# Altium integrated library Diodes - TVS.IntLib: 5379 symbols (part 114 of 122)
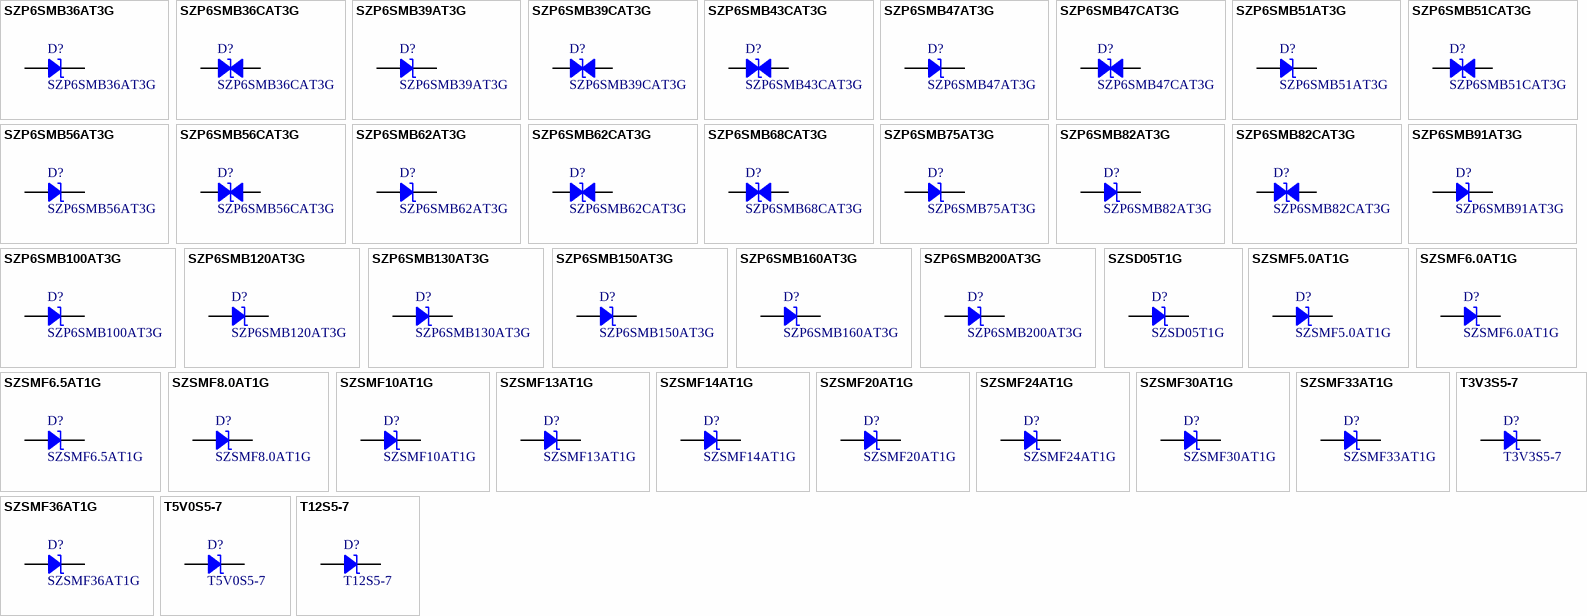
[diagram p247: symbols SZP6SMB36AT3G to T12S5-7]

## SZP6SMB160AT3G
designator D?
TVS DIODE 136V 219V SMB; Manufacturer: Littelfuse Inc.; Capacitance @ Frequency: 140pF @ 1MHz; Current - Peak Pulse (10/1000µs): 2.7A; Power Line Protection: No; Power - Peak Pulse: 600W; Type: Zener; Unidirectional Channels: 1; Voltage - Breakdown (Min): 152V; Part Number: SZP6SMB160AT3G; Applications: Automotive; ComponentLink1Description: Datasheet; ComponentLink1URL: https://www.littelfuse.com/~/media/electronics/datasheets/tvs_diodes/littelfuse_tvs_diode_szp6smb_datasheet.pdf.pdf; ComponentLink2Description: DigiKey Link; ComponentLink2URL: http://digikey.com/product-detail/en/littelfuse-inc/SZP6SMB160AT3G/F11613CT-ND/9326933; LastUpdated: 9/2/2020 1:19:51 AM; Lifecycle Status: Active; Minimum Order: 1; Mounting Type: Surface Mount; Operating Temperature: -65°C ~ 150°C (TJ); Package / Case: DO-214AA, SMB; Packaging: TapeAndReel; PartId: 11346; Part Status: Active; Price: 0.30; Series: Automotive, AEC-Q101; Supplier 1: DigiKey; Supplier Part Number 1: F11613CT-ND; Supplier Device Package: SMB; Voltage - Clamping (Max) @ Ipp: 219V; Voltage - Reverse Standoff (Typ): 136V
footprint DO214AA SMB
pins: 1, 2

## SZP6SMB200AT3G
designator D?
TVS DIODE 171VWM 274VC SMB; Manufacturer: Littelfuse Inc.; Capacitance @ Frequency: 115pF @ 1MHz; Current - Peak Pulse (10/1000µs): 2.2A; Power Line Protection: No; Power - Peak Pulse: 600W; Type: Zener; Unidirectional Channels: 1; Voltage - Breakdown (Min): 190V; Voltage - Clamping (Max) @ Ipp: 274V; Voltage - Reverse Standoff (Typ): 171V; Part Number: SZP6SMB200AT3G; Applications: Automotive; ComponentLink1Description: Datasheet; ComponentLink1URL: https://www.littelfuse.com/~/media/electronics/datasheets/tvs_diodes/littelfuse_tvs_diode_szp6smb_datasheet.pdf.pdf; ComponentLink2Description: DigiKey Link; ComponentLink2URL: http://digikey.com/product-detail/en/littelfuse-inc/SZP6SMB200AT3G/SZP6SMB200AT3GCT-ND/8548344; LastUpdated: 9/2/2020 1:19:48 AM; Lifecycle Status: Active; Minimum Order: 1; Mounting Type: Surface Mount; Operating Temperature: -65°C ~ 150°C (TJ); Package / Case: DO-214AA, SMB; Packaging: TapeAndReel; PartId: 10993; Part Status: Active; Price: 0.37; Series: Automotive, AEC-Q101; Supplier 1: DigiKey; Supplier Part Number 1: SZP6SMB200AT3GCT-ND; Supplier Device Package: SMB
footprint DO214AA SMB
pins: 1, 2

## SZSD05T1G
designator D?
TVS DIODE 5VWM 9.8VC SOD323-2; Manufacturer: ON Semiconductor; Capacitance @ Frequency: 350pF @ 1MHz; Current - Peak Pulse (10/1000µs): 24A (8/20µs); Power Line Protection: No; Power - Peak Pulse: 350W; Type: Zener; Unidirectional Channels: 1; Voltage - Breakdown (Min): 6.2V; Voltage - Clamping (Max) @ Ipp: 9.8V; Voltage - Reverse Standoff (Typ): 5V; Part Number: SZSD05T1G; Applications: Automotive; ComponentLink1Description: Datasheet; ComponentLink1URL: https://www.onsemi.com/pub/Collateral/SD05T1-D.PDF; ComponentLink2Description: DigiKey Link; ComponentLink2URL: http://digikey.com/product-detail/en/on-semiconductor/SZSD05T1G/SZSD05T1GOSCT-ND/8539075; LastUpdated: 9/2/2020 1:28:26 AM; Lifecycle Status: Active; Minimum Order: 1; Mounting Type: Surface Mount; Operating Temperature: -55°C ~ 150°C (TJ); Package / Case: SC-76, SOD-323; Packaging: TapeAndReel; PartId: 9846; Part Status: Active; Price: 0.10; Series: Automotive, AEC-Q101; Supplier 1: DigiKey; Supplier Part Number 1: SZSD05T1GOSCT-ND; Supplier Device Package: SOD-323
footprint SOD323
pins: 1, 2

## SZSMF5.0AT1G
designator D?
TVS DIODE 5V 9.2V SOD123FL; Manufacturer: Littelfuse Inc.; Current - Peak Pulse (10/1000µs): 21.7A; Power Line Protection: No; Power - Peak Pulse: 200W; Type: Zener; Unidirectional Channels: 1; Voltage - Breakdown (Min): 6.4V; Part Number: SZSMF5.0AT1G; Applications: Automotive; ComponentLink1Description: Datasheet; ComponentLink1URL: https://www.littelfuse.com/~/media/electronics/datasheets/tvs_diodes/littelfuse_tvs_diode_szsmfxxa_datasheet.pdf.pdf; ComponentLink2Description: DigiKey Link; ComponentLink2URL: http://digikey.com/product-detail/en/littelfuse-inc/SZSMF5.0AT1G/F11655CT-ND/9326995; LastUpdated: 9/2/2020 1:28:37 AM; Lifecycle Status: Active; Minimum Order: 1; Mounting Type: Surface Mount; Operating Temperature: -55°C ~ 150°C (TJ); Package / Case: SOD-123F; Packaging: TapeAndReel; PartId: 10202; Part Status: Active; Price: 0.17; Series: Automotive, AEC-Q101; Supplier 1: DigiKey; Supplier Part Number 1: F11655CT-ND; Supplier Device Package: SOD-123FL; Voltage - Clamping (Max) @ Ipp: 9.2V; Voltage - Reverse Standoff (Typ): 5V
footprint SOD123F
pins: 1, 2

## SZSMF6.0AT1G
designator D?
TVS DIODE 6V 10.3V SOD123FL; Manufacturer: Littelfuse Inc.; Current - Peak Pulse (10/1000µs): 19.4A; Power Line Protection: No; Power - Peak Pulse: 200W; Type: Zener; Unidirectional Channels: 1; Voltage - Breakdown (Min): 6.67V; Part Number: SZSMF6.0AT1G; Applications: Automotive; ComponentLink1Description: Datasheet; ComponentLink1URL: https://www.littelfuse.com/~/media/electronics/datasheets/tvs_diodes/littelfuse_tvs_diode_szsmfxxa_datasheet.pdf.pdf; ComponentLink2Description: DigiKey Link; ComponentLink2URL: http://digikey.com/product-detail/en/littelfuse-inc/SZSMF6.0AT1G/F11656CT-ND/9326996; LastUpdated: 9/2/2020 1:28:36 AM; Lifecycle Status: Active; Minimum Order: 1; Mounting Type: Surface Mount; Operating Temperature: -55°C ~ 150°C (TJ); Package / Case: SOD-123F; Packaging: TapeAndReel; PartId: 10100; Part Status: Active; Price: 0.18; Series: Automotive, AEC-Q101; Supplier 1: DigiKey; Supplier Part Number 1: F11656CT-ND; Supplier Device Package: SOD-123FL; Voltage - Clamping (Max) @ Ipp: 10.3V; Voltage - Reverse Standoff (Typ): 6V
footprint SOD123F
pins: 1, 2

## SZSMF6.5AT1G
designator D?
TVS DIODE 6.5V 11.2V SOD123FL; Manufacturer: Littelfuse Inc.; Current - Peak Pulse (10/1000µs): 17.9A; Power Line Protection: No; Power - Peak Pulse: 200W; Type: Zener; Unidirectional Channels: 1; Voltage - Breakdown (Min): 7.22V; Part Number: SZSMF6.5AT1G; Applications: Automotive; ComponentLink1Description: Datasheet; ComponentLink1URL: https://www.littelfuse.com/~/media/electronics/datasheets/tvs_diodes/littelfuse_tvs_diode_szsmfxxa_datasheet.pdf.pdf; ComponentLink2Description: DigiKey Link; ComponentLink2URL: http://digikey.com/product-detail/en/littelfuse-inc/SZSMF6.5AT1G/F11657CT-ND/9326997; LastUpdated: 9/2/2020 1:28:36 AM; Lifecycle Status: Active; Minimum Order: 1; Mounting Type: Surface Mount; Operating Temperature: -55°C ~ 150°C (TJ); Package / Case: SOD-123F; Packaging: TapeAndReel; PartId: 10098; Part Status: Active; Price: 0.17; Series: Automotive, AEC-Q101; Supplier 1: DigiKey; Supplier Part Number 1: F11657CT-ND; Supplier Device Package: SOD-123FL; Voltage - Clamping (Max) @ Ipp: 11.2V; Voltage - Reverse Standoff (Typ): 6.5V
footprint SOD123F
pins: 1, 2

## SZSMF8.0AT1G
designator D?
TVS DIODE 8V 13.6V SOD123FL; Manufacturer: Littelfuse Inc.; Current - Peak Pulse (10/1000µs): 14.7A; Power Line Protection: No; Power - Peak Pulse: 200W; Type: Zener; Unidirectional Channels: 1; Voltage - Breakdown (Min): 8.89V; Part Number: SZSMF8.0AT1G; Applications: Automotive; ComponentLink1Description: Datasheet; ComponentLink1URL: https://www.littelfuse.com/~/media/electronics/datasheets/tvs_diodes/littelfuse_tvs_diode_szsmfxxa_datasheet.pdf.pdf; ComponentLink2Description: DigiKey Link; ComponentLink2URL: http://digikey.com/product-detail/en/littelfuse-inc/SZSMF8.0AT1G/F11658CT-ND/9326998; LastUpdated: 9/2/2020 1:28:36 AM; Lifecycle Status: Active; Minimum Order: 1; Mounting Type: Surface Mount; Operating Temperature: -55°C ~ 150°C (TJ); Package / Case: SOD-123F; Packaging: TapeAndReel; PartId: 10084; Part Status: Active; Price: 0.17; Series: Automotive, AEC-Q101; Supplier 1: DigiKey; Supplier Part Number 1: F11658CT-ND; Supplier Device Package: SOD-123FL; Voltage - Clamping (Max) @ Ipp: 13.6V; Voltage - Reverse Standoff (Typ): 8V
footprint SOD123F
pins: 1, 2

## SZSMF10AT1G
designator D?
TVS DIODE 10V 17V SOD123FL; Manufacturer: Littelfuse Inc.; Current - Peak Pulse (10/1000µs): 11.8A; Power Line Protection: No; Power - Peak Pulse: 200W; Type: Zener; Unidirectional Channels: 1; Voltage - Breakdown (Min): 11.1V; Part Number: SZSMF10AT1G; Applications: Automotive; ComponentLink1Description: Datasheet; ComponentLink1URL: https://www.littelfuse.com/~/media/electronics/datasheets/tvs_diodes/littelfuse_tvs_diode_szsmfxxa_datasheet.pdf.pdf; ComponentLink2Description: DigiKey Link; ComponentLink2URL: http://digikey.com/product-detail/en/littelfuse-inc/SZSMF10AT1G/F11647CT-ND/9326987; LastUpdated: 9/2/2020 1:28:37 AM; Lifecycle Status: Active; Minimum Order: 1; Mounting Type: Surface Mount; Operating Temperature: -55°C ~ 150°C (TJ); Package / Case: SOD-123F; Packaging: TapeAndReel; PartId: 10170; Part Status: Active; Price: 0.17; Series: Automotive, AEC-Q101; Supplier 1: DigiKey; Supplier Part Number 1: F11647CT-ND; Supplier Device Package: SOD-123FL; Voltage - Clamping (Max) @ Ipp: 17V; Voltage - Reverse Standoff (Typ): 10V
footprint SOD123F
pins: 1, 2

## SZSMF13AT1G
designator D?
TVS DIODE 13V 21.5V SOD123FL; Manufacturer: Littelfuse Inc.; Current - Peak Pulse (10/1000µs): 9.3A; Power Line Protection: No; Power - Peak Pulse: 200W; Type: Zener; Unidirectional Channels: 1; Voltage - Breakdown (Min): 14.4V; Part Number: SZSMF13AT1G; Applications: Automotive; ComponentLink1Description: Datasheet; ComponentLink1URL: https://www.littelfuse.com/~/media/electronics/datasheets/tvs_diodes/littelfuse_tvs_diode_szsmfxxa_datasheet.pdf.pdf; ComponentLink2Description: DigiKey Link; ComponentLink2URL: http://digikey.com/product-detail/en/littelfuse-inc/SZSMF13AT1G/F11648CT-ND/9326988; LastUpdated: 9/2/2020 1:28:36 AM; Lifecycle Status: Active; Minimum Order: 1; Mounting Type: Surface Mount; Operating Temperature: -55°C ~ 150°C (TJ); Package / Case: SOD-123F; Packaging: TapeAndReel; PartId: 10083; Part Status: Active; Price: 0.17; Series: Automotive, AEC-Q101; Supplier 1: DigiKey; Supplier Part Number 1: F11648CT-ND; Supplier Device Package: SOD-123FL; Voltage - Clamping (Max) @ Ipp: 21.5V; Voltage - Reverse Standoff (Typ): 13V
footprint SOD123F
pins: 1, 2

## SZSMF14AT1G
designator D?
TVS DIODE 14V 23.2V SOD123FL; Manufacturer: Littelfuse Inc.; Current - Peak Pulse (10/1000µs): 8.6A (8/20µs); Power Line Protection: No; Power - Peak Pulse: 1000W (1kW); Type: Zener; Unidirectional Channels: 1; Voltage - Breakdown (Min): 15.6V; Part Number: SZSMF14AT1G; Applications: Automotive; ComponentLink1Description: Datasheet; ComponentLink1URL: https://www.littelfuse.com/~/media/electronics/datasheets/tvs_diodes/littelfuse_tvs_diode_szsmfxxa_datasheet.pdf.pdf; ComponentLink2Description: DigiKey Link; ComponentLink2URL: http://digikey.com/product-detail/en/littelfuse-inc/SZSMF14AT1G/F11649CT-ND/9326989; LastUpdated: 9/2/2020 1:28:36 AM; Lifecycle Status: Active; Minimum Order: 1; Mounting Type: Surface Mount; Operating Temperature: -55°C ~ 150°C (TJ); Package / Case: SOD-123F; Packaging: TapeAndReel; PartId: 10101; Part Status: Active; Price: 0.18; Series: Automotive, AEC-Q101; Supplier 1: DigiKey; Supplier Part Number 1: F11649CT-ND; Supplier Device Package: SOD-123FL; Voltage - Clamping (Max) @ Ipp: 23.2V; Voltage - Reverse Standoff (Typ): 14V
footprint SOD123F
pins: 1, 2

## SZSMF20AT1G
designator D?
TVS DIODE 20V 32.4V SOD123FL; Manufacturer: Littelfuse Inc.; Current - Peak Pulse (10/1000µs): 6.2A (8/20µs); Power Line Protection: No; Power - Peak Pulse: 1000W (1kW); Type: Zener; Unidirectional Channels: 1; Voltage - Breakdown (Min): 22.2V; Part Number: SZSMF20AT1G; Applications: Automotive; ComponentLink1Description: Datasheet; ComponentLink1URL: https://www.littelfuse.com/~/media/electronics/datasheets/tvs_diodes/littelfuse_tvs_diode_szsmfxxa_datasheet.pdf.pdf; ComponentLink2Description: DigiKey Link; ComponentLink2URL: http://digikey.com/product-detail/en/littelfuse-inc/SZSMF20AT1G/F11650CT-ND/9326990; LastUpdated: 9/2/2020 1:28:36 AM; Lifecycle Status: Active; Minimum Order: 1; Mounting Type: Surface Mount; Operating Temperature: -55°C ~ 150°C (TJ); Package / Case: SOD-123F; Packaging: TapeAndReel; PartId: 10102; Part Status: Active; Price: 0.18; Series: Automotive, AEC-Q101; Supplier 1: DigiKey; Supplier Part Number 1: F11650CT-ND; Supplier Device Package: SOD-123FL; Voltage - Clamping (Max) @ Ipp: 32.4V; Voltage - Reverse Standoff (Typ): 20V
footprint SOD123F
pins: 1, 2

## SZSMF24AT1G
designator D?
TVS DIODE 24V 38.9V SOD123FL; Manufacturer: Littelfuse Inc.; Current - Peak Pulse (10/1000µs): 5.1A (8/20µs); Power Line Protection: No; Power - Peak Pulse: 1000W (1kW); Type: Zener; Unidirectional Channels: 1; Voltage - Breakdown (Min): 26.7V; Part Number: SZSMF24AT1G; Applications: Automotive; ComponentLink1Description: Datasheet; ComponentLink1URL: https://www.littelfuse.com/~/media/electronics/datasheets/tvs_diodes/littelfuse_tvs_diode_szsmfxxa_datasheet.pdf.pdf; ComponentLink2Description: DigiKey Link; ComponentLink2URL: http://digikey.com/product-detail/en/littelfuse-inc/SZSMF24AT1G/F11651CT-ND/9326991; LastUpdated: 9/2/2020 1:28:36 AM; Lifecycle Status: Active; Minimum Order: 1; Mounting Type: Surface Mount; Operating Temperature: -55°C ~ 150°C (TJ); Package / Case: SOD-123F; Packaging: TapeAndReel; PartId: 10069; Part Status: Active; Price: 0.18; Series: Automotive, AEC-Q101; Supplier 1: DigiKey; Supplier Part Number 1: F11651CT-ND; Supplier Device Package: SOD-123FL; Voltage - Clamping (Max) @ Ipp: 38.9V; Voltage - Reverse Standoff (Typ): 24V
footprint SOD123F
pins: 1, 2

## SZSMF30AT1G
designator D?
TVS DIODE 30V 48.4V SOD123FL; Manufacturer: Littelfuse Inc.; Current - Peak Pulse (10/1000µs): 4.1A; Power Line Protection: No; Power - Peak Pulse: 200W; Type: Zener; Unidirectional Channels: 1; Voltage - Breakdown (Min): 33.3V; Part Number: SZSMF30AT1G; Applications: Automotive; ComponentLink1Description: Datasheet; ComponentLink1URL: https://www.littelfuse.com/~/media/electronics/datasheets/tvs_diodes/littelfuse_tvs_diode_szsmfxxa_datasheet.pdf.pdf; ComponentLink2Description: DigiKey Link; ComponentLink2URL: http://digikey.com/product-detail/en/littelfuse-inc/SZSMF30AT1G/F11652CT-ND/9326992; LastUpdated: 9/2/2020 1:28:36 AM; Lifecycle Status: Active; Minimum Order: 1; Mounting Type: Surface Mount; Operating Temperature: -55°C ~ 150°C (TJ); Package / Case: SOD-123F; Packaging: TapeAndReel; PartId: 10136; Part Status: Active; Price: 0.18; Series: Automotive, AEC-Q101; Supplier 1: DigiKey; Supplier Part Number 1: F11652CT-ND; Supplier Device Package: SOD-123FL; Voltage - Clamping (Max) @ Ipp: 48.4V; Voltage - Reverse Standoff (Typ): 30V
footprint SOD123F
pins: 1, 2

## SZSMF33AT1G
designator D?
TVS DIODE 33V 53.3V SOD123FL; Manufacturer: Littelfuse Inc.; Current - Peak Pulse (10/1000µs): 3.8A (8/20µs); Power Line Protection: No; Power - Peak Pulse: 1000W (1kW); Type: Zener; Unidirectional Channels: 1; Voltage - Breakdown (Min): 36.7V; Part Number: SZSMF33AT1G; Applications: Automotive; ComponentLink1Description: Datasheet; ComponentLink1URL: https://www.littelfuse.com/~/media/electronics/datasheets/tvs_diodes/littelfuse_tvs_diode_szsmfxxa_datasheet.pdf.pdf; ComponentLink2Description: DigiKey Link; ComponentLink2URL: http://digikey.com/product-detail/en/littelfuse-inc/SZSMF33AT1G/F11653CT-ND/9326993; LastUpdated: 9/2/2020 1:28:36 AM; Lifecycle Status: Active; Minimum Order: 1; Mounting Type: Surface Mount; Operating Temperature: -55°C ~ 150°C (TJ); Package / Case: SOD-123F; Packaging: TapeAndReel; PartId: 10097; Part Status: Active; Price: 0.18; Series: Automotive, AEC-Q101; Supplier 1: DigiKey; Supplier Part Number 1: F11653CT-ND; Supplier Device Package: SOD-123FL; Voltage - Clamping (Max) @ Ipp: 53.3V; Voltage - Reverse Standoff (Typ): 33V
footprint SOD123F
pins: 1, 2

## SZSMF36AT1G
designator D?
TVS DIODE 36V 58.1V SOD123FL; Manufacturer: Littelfuse Inc.; Current - Peak Pulse (10/1000µs): 3.4A; Power Line Protection: No; Power - Peak Pulse: 200W; Type: Zener; Unidirectional Channels: 1; Voltage - Breakdown (Min): 40V; Part Number: SZSMF36AT1G; Applications: Automotive; ComponentLink1Description: Datasheet; ComponentLink1URL: https://www.littelfuse.com/~/media/electronics/datasheets/tvs_diodes/littelfuse_tvs_diode_szsmfxxa_datasheet.pdf.pdf; ComponentLink2Description: DigiKey Link; ComponentLink2URL: http://digikey.com/product-detail/en/littelfuse-inc/SZSMF36AT1G/F11654CT-ND/9326994; LastUpdated: 9/2/2020 1:28:36 AM; Lifecycle Status: Active; Minimum Order: 1; Mounting Type: Surface Mount; Operating Temperature: -55°C ~ 150°C (TJ); Package / Case: SOD-123F; Packaging: TapeAndReel; PartId: 10099; Part Status: Active; Price: 0.18; Series: Automotive, AEC-Q101; Supplier 1: DigiKey; Supplier Part Number 1: F11654CT-ND; Supplier Device Package: SOD-123FL; Voltage - Clamping (Max) @ Ipp: 58.1V; Voltage - Reverse Standoff (Typ): 36V
footprint SOD123F
pins: 1, 2

## T3V3S5-7
designator D?
TVS DIODE 3.3V 16V SOD523; Manufacturer: Diodes Incorporated; Capacitance @ Frequency: 85pF @ 1MHz; Current - Peak Pulse (10/1000µs): 16A (8/20µs); Power Line Protection: No; Power - Peak Pulse: 220W; Type: Zener; Unidirectional Channels: 1; Voltage - Breakdown (Min): 5V; Part Number: T3V3S5-7; Applications: General Purpose; ComponentLink1Description: Datasheet; ComponentLink1URL: https://www.diodes.com/assets/Datasheets/ds31112.pdf; ComponentLink2Description: DigiKey Link; ComponentLink2URL: http://digikey.com/product-detail/en/diodes-incorporated/T3V3S5-7/T3V3S5DICT-ND/1774251; LastUpdated: 9/2/2020 1:28:23 AM; Lifecycle Status: Active; Minimum Order: 1; Mounting Type: Surface Mount; Operating Temperature: -65°C ~ 150°C (TJ); Package / Case: SC-79, SOD-523; Packaging: TapeAndReel; PartId: 9717; Part Status: Active; Price: 0.10; Series: -; Supplier 1: DigiKey; Supplier Part Number 1: T3V3S5DICT-ND; Supplier Device Package: SOD-523; Voltage - Clamping (Max) @ Ipp: 16V; Voltage - Reverse Standoff (Typ): 3.3V
footprint SOD523F
pins: 1, 2

## T5V0S5-7
designator D?
TVS DIODE 5V 27V SOD523; Manufacturer: Diodes Incorporated; Capacitance @ Frequency: 100pF @ 1MHz; Current - Peak Pulse (10/1000µs): 15A (8/20µs); Power Line Protection: No; Power - Peak Pulse: 260W; Type: Zener; Unidirectional Channels: 1; Voltage - Breakdown (Min): 6.2V; Part Number: T5V0S5-7; Applications: General Purpose; ComponentLink1Description: Datasheet; ComponentLink1URL: https://www.diodes.com/assets/Datasheets/ds31112.pdf; ComponentLink2Description: DigiKey Link; ComponentLink2URL: http://digikey.com/product-detail/en/diodes-incorporated/T5V0S5-7/T5V0S5DICT-ND/1774252; LastUpdated: 9/2/2020 1:28:24 AM; Lifecycle Status: Active; Minimum Order: 1; Mounting Type: Surface Mount; Operating Temperature: -65°C ~ 150°C (TJ); Package / Case: SC-79, SOD-523; Packaging: TapeAndReel; PartId: 9745; Part Status: Active; Price: 0.10; Series: -; Supplier 1: DigiKey; Supplier Part Number 1: T5V0S5DICT-ND; Supplier Device Package: SOD-523; Voltage - Clamping (Max) @ Ipp: 27V; Voltage - Reverse Standoff (Typ): 5V
footprint SOD523F
pins: 1, 2

## T12S5-7
designator D?
TVS DIODE 12V 28V SOD523; Manufacturer: Diodes Incorporated; Capacitance @ Frequency: 60pF @ 1MHz; Current - Peak Pulse (10/1000µs): 12A (8/20µs); Power Line Protection: No; Power - Peak Pulse: 300W; Type: Zener; Unidirectional Channels: 1; Voltage - Breakdown (Min): 14.1V; Part Number: T12S5-7; Applications: General Purpose; ComponentLink1Description: Datasheet; ComponentLink1URL: https://www.diodes.com/assets/Datasheets/ds31112.pdf; ComponentLink2Description: DigiKey Link; ComponentLink2URL: http://digikey.com/product-detail/en/diodes-incorporated/T12S5-7/T12S5DICT-ND/1774250; LastUpdated: 9/2/2020 1:28:24 AM; Lifecycle Status: Active; Minimum Order: 1; Mounting Type: Surface Mount; Operating Temperature: -65°C ~ 150°C (TJ); Package / Case: SC-79, SOD-523; Packaging: TapeAndReel; PartId: 9795; Part Status: Active; Price: 0.09; Series: -; Supplier 1: DigiKey; Supplier Part Number 1: T12S5DICT-ND; Supplier Device Package: SOD-523; Voltage - Clamping (Max) @ Ipp: 28V; Voltage - Reverse Standoff (Typ): 12V
footprint SOD523F
pins: 1, 2

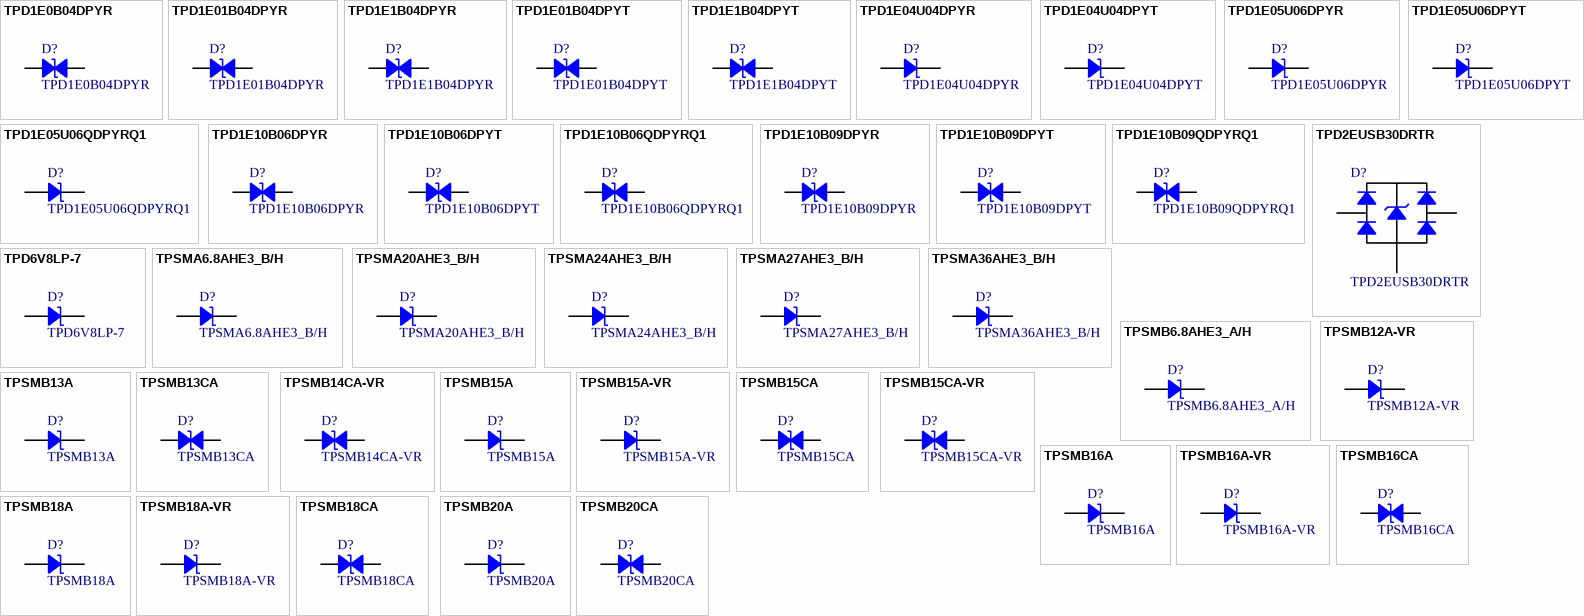
[diagram p126: symbols TPD1E0B04DPYR to TPSMB20CA]

## TPD1E0B04DPYR
designator D?
TVS DIODE 3.6V 19V 2X1SON; Manufacturer: Texas Instruments; Bidirectional Channels: 1; Capacitance @ Frequency: 0.15pF @ 1MHz; Current - Peak Pulse (10/1000µs): 1.7A (8/20µs); Power Line Protection: No; Power - Peak Pulse: 15W; Type: Zener; Voltage - Breakdown (Min): 6.7V (Typ); Part Number: TPD1E0B04DPYR; Applications: General Purpose; ComponentLink1Description: Datasheet; ComponentLink1URL: http://www.ti.com/general/docs/suppproductinfo.tsp?distId=10&gotoUrl=http%3A%2F%2Fwww.ti.com%2Flit%2Fgpn%2Ftpd1e0b04; ComponentLink2Description: DigiKey Link; ComponentLink2URL: http://digikey.com/product-detail/en/texas-instruments/TPD1E0B04DPYR/296-47864-1-ND/8133213; Device Package: 0402 (1006 Metric); LastUpdated: 9/2/2020 1:28:49 AM; Lifecycle Status: Active; Minimum Order: 1; Mounting Type: Surface Mount; Operating Temperature: -40°C ~ 125°C (TA); Package / Case: 0402 (1006 Metric); Packaging: TapeAndReel; PartId: 10457; Part Status: Active; Price: 0.09; Series: -; Supplier 1: DigiKey; Supplier Part Number 1: 296-47864-1-ND; Supplier Device Package: 2-X1SON (1x.60); Voltage - Clamping (Max) @ Ipp: 19V; Voltage - Reverse Standoff (Typ): 3.6V
footprint 0402
pins: 1, 2

## TPD1E01B04DPYR
designator D?
TVS DIODE 15VC 2.5A IPP 2X1SON; Manufacturer: Texas Instruments; Bidirectional Channels: 1; Capacitance @ Frequency: 0.2pF @ 1MHz; Power Line Protection: No; Power - Peak Pulse: 27W; Type: Zener; Voltage - Breakdown (Min): 6.4V; Voltage - Clamping (Max) @ Ipp: 15V; Voltage - Reverse Standoff (Typ): 3.6V; Part Number: TPD1E01B04DPYR; Applications: General Purpose; ComponentLink1Description: Datasheet; ComponentLink1URL: http://www.ti.com/general/docs/suppproductinfo.tsp?distId=10&gotoUrl=http%3A%2F%2Fwww.ti.com%2Flit%2Fgpn%2Ftpd1e01b04; ComponentLink2Description: DigiKey Link; ComponentLink2URL: http://digikey.com/product-detail/en/texas-instruments/TPD1E01B04DPYR/296-48721-1-ND/8567765; Current - Peak Pulse (10/1000µs): 2.5A; Device Package: 0402 (1006 Metric); LastUpdated: 9/2/2020 1:28:49 AM; Lifecycle Status: Active; Minimum Order: 1; Mounting Type: Surface Mount; Operating Temperature: -40°C ~ 125°C (TA); Package / Case: 0402 (1006 Metric); Packaging: TapeAndReel; PartId: 10458; Part Status: Active; Price: 0.09; Series: -; Supplier 1: DigiKey; Supplier Part Number 1: 296-48721-1-ND; Supplier Device Package: 2-X1SON (1x.60)
footprint 0402
pins: 1, 2

## TPD1E1B04DPYR
designator D?
TVS DIODE 3.6V 8.5V 2X1SON; Manufacturer: Texas Instruments; Bidirectional Channels: 1; Capacitance @ Frequency: 1pF @ 1MHz; Current - Peak Pulse (10/1000µs): 6.3A (8/20µs); Power Line Protection: No; Power - Peak Pulse: 50W; Type: Zener; Voltage - Breakdown (Min): 6.4V (Typ); Voltage - Clamping (Max) @ Ipp: 8.5V (Typ); Voltage - Reverse Standoff (Typ): 3.6V (Max); Part Number: TPD1E1B04DPYR; Applications: General Purpose; ComponentLink1Description: Datasheet; ComponentLink1URL: http://www.ti.com/general/docs/suppproductinfo.tsp?distId=10&gotoUrl=http%3A%2F%2Fwww.ti.com%2Flit%2Fgpn%2Ftpd1e1b04; ComponentLink2Description: DigiKey Link; ComponentLink2URL: http://digikey.com/product-detail/en/texas-instruments/TPD1E1B04DPYR/296-47364-1-ND/7688374; Device Package: 0402 (1006 Metric); LastUpdated: 9/2/2020 1:28:49 AM; Lifecycle Status: Active; Minimum Order: 1; Mounting Type: Surface Mount; Operating Temperature: -40°C ~ 125°C (TA); Package / Case: 0402 (1006 Metric); Packaging: TapeAndReel; PartId: 10493; Part Status: Active; Price: 0.08; Series: -; Supplier 1: DigiKey; Supplier Part Number 1: 296-47364-1-ND; Supplier Device Package: 2-X1SON (1x.60)
footprint 0402
pins: 1, 2

## TPD1E01B04DPYT
designator D?
TVS DIODE 3.6V 15V 2X1SON; Manufacturer: Texas Instruments; Bidirectional Channels: 1; Capacitance @ Frequency: 0.2pF @ 1MHz; Current - Peak Pulse (10/1000µs): 2.5A (8/20µs); Power Line Protection: No; Power - Peak Pulse: 27W; Type: Zener; Voltage - Breakdown (Min): 6.4V (Typ); Voltage - Reverse Standoff (Typ): 3.6V (Max); Part Number: TPD1E01B04DPYT; Applications: General Purpose; ComponentLink1Description: Datasheet; ComponentLink1URL: http://www.ti.com/general/docs/suppproductinfo.tsp?distId=10&gotoUrl=http%3A%2F%2Fwww.ti.com%2Flit%2Fgpn%2Ftpd1e01b04; ComponentLink2Description: DigiKey Link; ComponentLink2URL: http://digikey.com/product-detail/en/texas-instruments/TPD1E01B04DPYT/296-45359-1-ND/6615418; Device Package: 0402 (1006 Metric); LastUpdated: 9/2/2020 1:28:49 AM; Lifecycle Status: Active; Minimum Order: 1; Mounting Type: Surface Mount; Operating Temperature: -40°C ~ 125°C (TA); Package / Case: 0402 (1006 Metric); Packaging: TapeAndReel; PartId: 10443; Part Status: Active; Price: 0.43; Series: -; Supplier 1: DigiKey; Supplier Part Number 1: 296-45359-1-ND; Supplier Device Package: 2-X1SON (1x.60); Voltage - Clamping (Max) @ Ipp: 15V
footprint 0402
pins: 1, 2

## TPD1E1B04DPYT
designator D?
TVS DIODE 3.6V 8.5V 2X1SON; Manufacturer: Texas Instruments; Bidirectional Channels: 1; Capacitance @ Frequency: 1pF @ 1MHz; Current - Peak Pulse (10/1000µs): 6.3A (8/20µs); Power Line Protection: No; Power - Peak Pulse: 50W; Type: Zener; Voltage - Breakdown (Min): 6.4V (Typ); Voltage - Clamping (Max) @ Ipp: 8.5V (Typ); Voltage - Reverse Standoff (Typ): 3.6V (Max); Part Number: TPD1E1B04DPYT; Applications: General Purpose; ComponentLink1Description: Datasheet; ComponentLink1URL: http://www.ti.com/general/docs/suppproductinfo.tsp?distId=10&gotoUrl=http%3A%2F%2Fwww.ti.com%2Flit%2Fgpn%2Ftpd1e1b04; ComponentLink2Description: DigiKey Link; ComponentLink2URL: http://digikey.com/product-detail/en/texas-instruments/TPD1E1B04DPYT/296-46892-1-ND/7219534; Device Package: 0402 (1006 Metric); LastUpdated: 9/2/2020 1:28:48 AM; Lifecycle Status: Active; Minimum Order: 1; Mounting Type: Surface Mount; Operating Temperature: -40°C ~ 125°C (TA); Package / Case: 0402 (1006 Metric); Packaging: TapeAndReel; PartId: 10404; Part Status: Active; Price: 0.42; Series: -; Supplier 1: DigiKey; Supplier Part Number 1: 296-46892-1-ND; Supplier Device Package: 2-X1SON (1x.60)
footprint 0402
pins: 1, 2

## TPD1E04U04DPYR
designator D?
TVS DIODE 3.6V 8.9V 2X1SON; Manufacturer: Texas Instruments; Capacitance @ Frequency: 0.5pF @ 1MHz; Current - Peak Pulse (10/1000µs): 2.5A (8/20µs); Power Line Protection: Yes; Power - Peak Pulse: 19W; Type: Steering (Rail to Rail); Unidirectional Channels: 1; Voltage - Breakdown (Min): 4.5V; Voltage - Reverse Standoff (Typ): 3.6V (Max); Part Number: TPD1E04U04DPYR; Applications: HDMI; ComponentLink1Description: Datasheet; ComponentLink1URL: http://www.ti.com/general/docs/suppproductinfo.tsp?distId=10&gotoUrl=http%3A%2F%2Fwww.ti.com%2Flit%2Fgpn%2Ftpd1e04u04; ComponentLink2Description: DigiKey Link; ComponentLink2URL: http://digikey.com/product-detail/en/texas-instruments/TPD1E04U04DPYR/296-47224-1-ND/7688234; Device Package: 0402 (1006 Metric); LastUpdated: 9/2/2020 1:28:45 AM; Lifecycle Status: Active; Minimum Order: 1; Mounting Type: Surface Mount; Operating Temperature: -40°C ~ 125°C (TA); Package / Case: 0402 (1006 Metric); Packaging: TapeAndReel; PartId: 10401; Part Status: Active; Price: 0.08; Series: -; Supplier 1: DigiKey; Supplier Part Number 1: 296-47224-1-ND; Supplier Device Package: 2-X1SON (1x.60); Voltage - Clamping (Max) @ Ipp: 8.9V
footprint 0402
pins: 1, 2

## TPD1E04U04DPYT
designator D?
TVS DIODE 3.6V 8.9V 2X1SON; Manufacturer: Texas Instruments; Capacitance @ Frequency: 0.5pF @ 1MHz; Current - Peak Pulse (10/1000µs): 2.5A (8/20µs); Power Line Protection: Yes; Power - Peak Pulse: 19W; Type: Steering (Rail to Rail); Unidirectional Channels: 1; Voltage - Breakdown (Min): 4.5V; Voltage - Reverse Standoff (Typ): 3.6V (Max); Part Number: TPD1E04U04DPYT; Applications: HDMI; ComponentLink1Description: Datasheet; ComponentLink1URL: http://www.ti.com/general/docs/suppproductinfo.tsp?distId=10&gotoUrl=http%3A%2F%2Fwww.ti.com%2Flit%2Fgpn%2Ftpd1e04u04; ComponentLink2Description: DigiKey Link; ComponentLink2URL: http://digikey.com/product-detail/en/texas-instruments/TPD1E04U04DPYT/296-44485-1-ND/6110769; Device Package: 0402 (1006 Metric); LastUpdated: 9/2/2020 1:28:45 AM; Lifecycle Status: Active; Minimum Order: 1; Mounting Type: Surface Mount; Operating Temperature: -40°C ~ 125°C (TA); Package / Case: 0402 (1006 Metric); Packaging: TapeAndReel; PartId: 10381; Part Status: Active; Price: 0.42; Series: -; Supplier 1: DigiKey; Supplier Part Number 1: 296-44485-1-ND; Supplier Device Package: 2-X1SON (1x.60); Voltage - Clamping (Max) @ Ipp: 8.9V
footprint 0402
pins: 1, 2

## TPD1E05U06DPYR
designator D?
TVS DIODE 5.5V 14V 2X1SON; Manufacturer: Texas Instruments; Current - Peak Pulse (10/1000µs): 2.5A (8/20µs); Power Line Protection: Yes; Power - Peak Pulse: 40W; Type: Steering (Rail to Rail); Unidirectional Channels: 1; Voltage - Breakdown (Min): 6V; Voltage - Reverse Standoff (Typ): 5.5V (Max); Part Number: TPD1E05U06DPYR; Applications: HDMI; ComponentLink1Description: Datasheet; ComponentLink1URL: http://www.ti.com/general/docs/suppproductinfo.tsp?distId=10&gotoUrl=http%3A%2F%2Fwww.ti.com%2Flit%2Fgpn%2Ftpd1e05u06; ComponentLink2Description: DigiKey Link; ComponentLink2URL: http://digikey.com/product-detail/en/texas-instruments/TPD1E05U06DPYR/296-39341-1-ND/5143293; Device Package: 0402 (1006 Metric); LastUpdated: 9/2/2020 1:28:45 AM; Lifecycle Status: Active; Minimum Order: 1; Mounting Type: Surface Mount; Operating Temperature: -40°C ~ 125°C (TA); Package / Case: 0402 (1006 Metric); Packaging: TapeAndReel; PartId: 10382; Part Status: Active; Price: 0.07; Series: -; Supplier 1: DigiKey; Supplier Part Number 1: 296-39341-1-ND; Supplier Device Package: 2-X1SON (1x.60); Voltage - Clamping (Max) @ Ipp: 14V
footprint 0402
pins: 1, 2

## TPD1E05U06DPYT
designator D?
TVS DIODE 5.5V 14V 2X1SON; Manufacturer: Texas Instruments; Current - Peak Pulse (10/1000µs): 2.5A (8/20µs); Power Line Protection: Yes; Power - Peak Pulse: 40W; Type: Steering (Rail to Rail); Unidirectional Channels: 1; Voltage - Breakdown (Min): 6V; Voltage - Reverse Standoff (Typ): 5.5V (Max); Part Number: TPD1E05U06DPYT; Applications: HDMI; ComponentLink1Description: Datasheet; ComponentLink1URL: http://www.ti.com/general/docs/suppproductinfo.tsp?distId=10&gotoUrl=http%3A%2F%2Fwww.ti.com%2Flit%2Fgpn%2Ftpd1e05u06; ComponentLink2Description: DigiKey Link; ComponentLink2URL: http://digikey.com/product-detail/en/texas-instruments/TPD1E05U06DPYT/296-39342-1-ND/5143294; Device Package: 0402 (1006 Metric); LastUpdated: 9/2/2020 1:28:45 AM; Lifecycle Status: Active; Minimum Order: 1; Mounting Type: Surface Mount; Operating Temperature: -40°C ~ 125°C (TA); Package / Case: 0402 (1006 Metric); Packaging: TapeAndReel; PartId: 10366; Part Status: Active; Price: 0.38; Series: -; Supplier 1: DigiKey; Supplier Part Number 1: 296-39342-1-ND; Supplier Device Package: 2-X1SON (1x.60); Voltage - Clamping (Max) @ Ipp: 14V
footprint 0402
pins: 1, 2

## TPD1E05U06QDPYRQ1
designator D?
TVS DIODE 5.5V 14V 2X1SON; Manufacturer: Texas Instruments; Capacitance @ Frequency: 0.42pF @ 1MHz; Current - Peak Pulse (10/1000µs): 2.5A (8/20µs); Power Line Protection: Yes; Power - Peak Pulse: 30W; Type: Steering (Rail to Rail); Unidirectional Channels: 1; Voltage - Breakdown (Min): 6.4V; Voltage - Clamping (Max) @ Ipp: 14V (Typ); Voltage - Reverse Standoff (Typ): 5.5V (Max); Part Number: TPD1E05U06QDPYRQ1; Applications: Automotive, HDMI, USB; ComponentLink1Description: Datasheet; ComponentLink1URL: http://www.ti.com/general/docs/suppproductinfo.tsp?distId=10&gotoUrl=http%3A%2F%2Fwww.ti.com%2Flit%2Fgpn%2Ftpd1e05u06-q1; ComponentLink2Description: DigiKey Link; ComponentLink2URL: http://digikey.com/product-detail/en/texas-instruments/TPD1E05U06QDPYRQ1/296-47863-1-ND/8133212; Device Package: 0402 (1006 Metric); LastUpdated: 9/2/2020 1:28:45 AM; Lifecycle Status: Active; Minimum Order: 1; Mounting Type: Surface Mount; Operating Temperature: -40°C ~ 125°C (TA); Package / Case: 0402 (1006 Metric); Packaging: TapeAndReel; PartId: 10394; Part Status: Active; Price: 0.08; Series: Automotive, AEC-Q101; Supplier 1: DigiKey; Supplier Part Number 1: 296-47863-1-ND; Supplier Device Package: 2-X1SON (1x.60)
footprint 0402
pins: 1, 2

## TPD1E10B06DPYR
designator D?
TVS DIODE 5.5V 14V 2X1SON; Manufacturer: Texas Instruments; Bidirectional Channels: 1; Current - Peak Pulse (10/1000µs): 5A (8/20µs); Power Line Protection: No; Power - Peak Pulse: 90W; Type: Zener; Voltage - Breakdown (Min): 6V; Voltage - Reverse Standoff (Typ): 5.5V (Max); Part Number: TPD1E10B06DPYR; Applications: General Purpose; ComponentLink1Description: Datasheet; ComponentLink1URL: http://www.ti.com/general/docs/suppproductinfo.tsp?distId=10&gotoUrl=http%3A%2F%2Fwww.ti.com%2Flit%2Fgpn%2Ftpd1e10b06; ComponentLink2Description: DigiKey Link; ComponentLink2URL: http://digikey.com/product-detail/en/texas-instruments/TPD1E10B06DPYR/296-30406-1-ND/3283560; Device Package: 0402 (1006 Metric); LastUpdated: 9/2/2020 1:28:49 AM; Lifecycle Status: Active; Minimum Order: 1; Mounting Type: Surface Mount; Operating Temperature: -40°C ~ 125°C (TA); Package / Case: 0402 (1006 Metric); Packaging: TapeAndReel; PartId: 10446; Part Status: Active; Price: 0.07; Series: -; Supplier 1: DigiKey; Supplier Part Number 1: 296-30406-1-ND; Supplier Device Package: 2-X1SON (1x.60); Voltage - Clamping (Max) @ Ipp: 14V
footprint 0402
pins: 1, 2

## TPD1E10B06DPYT
designator D?
TVS DIODE 5.5V 14V 2X1SON; Manufacturer: Texas Instruments; Bidirectional Channels: 1; Current - Peak Pulse (10/1000µs): 5A (8/20µs); Power Line Protection: No; Power - Peak Pulse: 90W; Type: Zener; Voltage - Breakdown (Min): 6V; Voltage - Reverse Standoff (Typ): 5.5V (Max); Part Number: TPD1E10B06DPYT; Applications: General Purpose; ComponentLink1Description: Datasheet; ComponentLink1URL: http://www.ti.com/general/docs/suppproductinfo.tsp?distId=10&gotoUrl=http%3A%2F%2Fwww.ti.com%2Flit%2Fgpn%2Ftpd1e10b06; ComponentLink2Description: DigiKey Link; ComponentLink2URL: http://digikey.com/product-detail/en/texas-instruments/TPD1E10B06DPYT/296-41842-1-ND/5224472; Device Package: 0402 (1006 Metric); LastUpdated: 9/2/2020 1:28:48 AM; Lifecycle Status: Active; Minimum Order: 1; Mounting Type: Surface Mount; Operating Temperature: -40°C ~ 125°C (TA); Package / Case: 0402 (1006 Metric); Packaging: TapeAndReel; PartId: 10408; Part Status: Active; Price: 0.38; Series: -; Supplier 1: DigiKey; Supplier Part Number 1: 296-41842-1-ND; Supplier Device Package: 2-X1SON (1x.60); Voltage - Clamping (Max) @ Ipp: 14V
footprint 0402
pins: 1, 2

## TPD1E10B06QDPYRQ1
designator D?
TVS DIODE 5.5V 14V 2X1SON; Manufacturer: Texas Instruments; Bidirectional Channels: 1; Capacitance @ Frequency: 12pF @ 1MHz; Current - Peak Pulse (10/1000µs): 6A (8/20µs); Power Line Protection: No; Power - Peak Pulse: 90W; Type: Zener; Voltage - Breakdown (Min): 6V; Voltage - Clamping (Max) @ Ipp: 14V (Typ); Voltage - Reverse Standoff (Typ): 5.5V (Max); Part Number: TPD1E10B06QDPYRQ1; Applications: Automotive; ComponentLink1Description: Datasheet; ComponentLink1URL: http://www.ti.com/general/docs/suppproductinfo.tsp?distId=10&gotoUrl=http%3A%2F%2Fwww.ti.com%2Flit%2Fgpn%2Ftpd1e10b06-q1; ComponentLink2Description: DigiKey Link; ComponentLink2URL: http://digikey.com/product-detail/en/texas-instruments/TPD1E10B06QDPYRQ1/296-TPD1E10B06QDPYRQ1CT-ND/6609868; Device Package: 0402 (1006 Metric); LastUpdated: 9/2/2020 1:28:49 AM; Lifecycle Status: Active; Minimum Order: 1; Mounting Type: Surface Mount; Operating Temperature: -40°C ~ 125°C (TA); Package / Case: 0402 (1006 Metric); Packaging: TapeAndReel; PartId: 10475; Part Status: Active; Price: 0.08; Series: Automotive, AEC-Q101; Supplier 1: DigiKey; Supplier Part Number 1: 296-TPD1E10B06QDPYRQ1CT-ND; Supplier Device Package: 2-X1SON (1x.60)
footprint 0402
pins: 1, 2

## TPD1E10B09DPYR
designator D?
TVS DIODE 9V 20V 2X1SON; Manufacturer: Texas Instruments; Bidirectional Channels: 1; Current - Peak Pulse (10/1000µs): 4.5A (8/20µs); Power Line Protection: No; Power - Peak Pulse: 90W; Type: Zener; Voltage - Breakdown (Min): 9.5V; Voltage - Reverse Standoff (Typ): 9V (Max); Part Number: TPD1E10B09DPYR; Applications: General Purpose; ComponentLink1Description: Datasheet; ComponentLink1URL: http://www.ti.com/general/docs/suppproductinfo.tsp?distId=10&gotoUrl=http%3A%2F%2Fwww.ti.com%2Flit%2Fgpn%2Ftpd1e10b09; ComponentLink2Description: DigiKey Link; ComponentLink2URL: http://digikey.com/product-detail/en/texas-instruments/TPD1E10B09DPYR/296-30405-1-ND/3283559; Device Package: 0402 (1006 Metric); LastUpdated: 9/2/2020 1:28:49 AM; Lifecycle Status: Active; Minimum Order: 1; Mounting Type: Surface Mount; Operating Temperature: -40°C ~ 125°C (TA); Package / Case: 0402 (1006 Metric); Packaging: TapeAndReel; PartId: 10445; Part Status: Active; Price: 0.08; Series: -; Supplier 1: DigiKey; Supplier Part Number 1: 296-30405-1-ND; Supplier Device Package: 2-X1SON (1x.60); Voltage - Clamping (Max) @ Ipp: 20V
footprint 0402
pins: 1, 2

## TPD1E10B09DPYT
designator D?
TVS DIODE 9V 20V 2X1SON; Manufacturer: Texas Instruments; Bidirectional Channels: 1; Current - Peak Pulse (10/1000µs): 4.5A (8/20µs); Power Line Protection: No; Power - Peak Pulse: 90W; Type: Zener; Voltage - Breakdown (Min): 9.5V; Voltage - Reverse Standoff (Typ): 9V (Max); Part Number: TPD1E10B09DPYT; Applications: General Purpose; ComponentLink1Description: Datasheet; ComponentLink1URL: http://www.ti.com/general/docs/suppproductinfo.tsp?distId=10&gotoUrl=http%3A%2F%2Fwww.ti.com%2Flit%2Fgpn%2Ftpd1e10b09; ComponentLink2Description: DigiKey Link; ComponentLink2URL: http://digikey.com/product-detail/en/texas-instruments/TPD1E10B09DPYT/296-46461-1-ND/7033634; Device Package: 0402 (1006 Metric); LastUpdated: 9/2/2020 1:28:49 AM; Lifecycle Status: Active; Minimum Order: 1; Mounting Type: Surface Mount; Operating Temperature: -40°C ~ 125°C (TA); Package / Case: 0402 (1006 Metric); Packaging: TapeAndReel; PartId: 10496; Part Status: Active; Price: 0.40; Series: -; Supplier 1: DigiKey; Supplier Part Number 1: 296-46461-1-ND; Supplier Device Package: 2-X1SON (1x.60); Voltage - Clamping (Max) @ Ipp: 20V
footprint 0402
pins: 1, 2

## TPD1E10B09QDPYRQ1
designator D?
TVS DIODE 5.5V 14V 2X1SON; Manufacturer: Texas Instruments; Bidirectional Channels: 1; Capacitance @ Frequency: 12pF @ 1MHz; Current - Peak Pulse (10/1000µs): 6A (8/20µs); Power Line Protection: No; Power - Peak Pulse: 90W; Type: Zener; Voltage - Breakdown (Min): 6V; Voltage - Clamping (Max) @ Ipp: 14V (Typ); Voltage - Reverse Standoff (Typ): 5.5V (Max); Part Number: TPD1E10B09QDPYRQ1; Applications: Automotive; ComponentLink1Description: Datasheet; ComponentLink1URL: http://www.ti.com/general/docs/suppproductinfo.tsp?distId=10&gotoUrl=http%3A%2F%2Fwww.ti.com%2Flit%2Fgpn%2Ftpd1e10b09-q1; ComponentLink2Description: DigiKey Link; ComponentLink2URL: http://digikey.com/product-detail/en/texas-instruments/TPD1E10B09QDPYRQ1/296-45328-1-ND/6609869; Device Package: 0402 (1006 Metric); LastUpdated: 9/2/2020 1:28:49 AM; Lifecycle Status: Active; Minimum Order: 1; Mounting Type: Surface Mount; Operating Temperature: -40°C ~ 125°C (TA); Package / Case: 0402 (1006 Metric); Packaging: TapeAndReel; PartId: 10474; Part Status: Active; Price: 0.08; Series: Automotive, AEC-Q101; Supplier 1: DigiKey; Supplier Part Number 1: 296-45328-1-ND; Supplier Device Package: 2-X1SON (1x.60)
footprint 0402
pins: 1, 2

## TPD2EUSB30DRTR
designator D?
TVS DIODE 5.5V 8V SOT3; Manufacturer: Texas Instruments; Current - Peak Pulse (10/1000µs): 1A (8/20µs); Power Line Protection: Yes; Power - Peak Pulse: 45W; Type: Steering (Rail to Rail); Unidirectional Channels: 2; Voltage - Breakdown (Min): 7V; Voltage - Reverse Standoff (Typ): 5.5V (Max); Part Number: TPD2EUSB30DRTR; Applications: General Purpose; ComponentLink1Description: Datasheet; ComponentLink1URL: http://www.ti.com/general/docs/suppproductinfo.tsp?distId=10&gotoUrl=http%3A%2F%2Fwww.ti.com%2Flit%2Fgpn%2Ftpd2eusb30; ComponentLink2Description: DigiKey Link; ComponentLink2URL: http://digikey.com/product-detail/en/texas-instruments/TPD2EUSB30DRTR/296-25509-1-ND/2193502; Device Package: SOT-3; LastUpdated: 3/30/2020 9:55:16 AM; Lifecycle Status: Active; Minimum Order: 1; Mounting Type: Surface Mount; Operating Temperature: -40°C ~ 85°C (TA); Package / Case: SOT-3; Packaging: TapeAndReel; PartId: 10504; Part Status: Active; Price: 0.20; Series: -; Supplier 1: DigiKey; Supplier Part Number 1: 296-25509-1-ND; Supplier Device Package: SOT-3; Voltage - Clamping (Max) @ Ipp: 8V
footprint TI SOT-3 DRT
pins: 1 D+, 2 D-, 3 GND

## TPD6V8LP-7
designator D?
TVS DIODE 5V 19V DFN1006-2; Manufacturer: Diodes Incorporated; Capacitance @ Frequency: 65pF @ 1MHz; Current - Peak Pulse (10/1000µs): 4.5A (8/20µs); Power Line Protection: No; Power - Peak Pulse: 85W; Type: Zener; Unidirectional Channels: 1; Voltage - Breakdown (Min): 6.4V; Part Number: TPD6V8LP-7; Applications: Automotive; ComponentLink1Description: Datasheet; ComponentLink1URL: https://www.diodes.com/assets/Datasheets/ds30914.pdf; ComponentLink2Description: DigiKey Link; ComponentLink2URL: http://digikey.com/product-detail/en/diodes-incorporated/TPD6V8LP-7/TPD6V8LP-7DICT-ND/2181117; Device Package: 0402 (1006 Metric); LastUpdated: 9/2/2020 1:28:45 AM; Lifecycle Status: Active; Minimum Order: 1; Mounting Type: Surface Mount; Operating Temperature: -65°C ~ 150°C (TJ); Package / Case: 0402 (1006 Metric); Packaging: TapeAndReel; PartId: 10389; Part Status: Active; Price: 0.10; Series: Automotive, AEC-Q101; Supplier 1: DigiKey; Supplier Part Number 1: TPD6V8LP-7DICT-ND; Supplier Device Package: X1-DFN1006-2; Voltage - Clamping (Max) @ Ipp: 19V; Voltage - Reverse Standoff (Typ): 5V
footprint 0402
pins: 1, 2

## TPSMA6.8AHE3_B/H
designator D?
TVS DIODE 5.8V 10.5V DO214AC; Manufacturer: Vishay Semiconductor Diodes Division; Current - Peak Pulse (10/1000µs): 38.1A; Power Line Protection: No; Power - Peak Pulse: 400W; Type: Zener; Unidirectional Channels: 1; Voltage - Breakdown (Min): 6.45V; Part Number: TPSMA6.8AHE3_B/H; Applications: Automotive; ComponentLink1Description: Datasheet; ComponentLink1URL: http://www.vishay.com/docs/88405/tpsma.pdf; ComponentLink2Description: DigiKey Link; ComponentLink2URL: http://digikey.com/product-detail/en/vishay-semiconductor-diodes-division/TPSMA6.8AHE3_B-H/TPSMA6.8AHE3_B-HGICT-ND/9601299; LastUpdated: 9/2/2020 1:20:14 AM; Lifecycle Status: Active; Minimum Order: 1; Mounting Type: Surface Mount; Operating Temperature: -65°C ~ 185°C (TJ); Package / Case: DO-214AC, SMA; Packaging: TapeAndReel; PartId: 5741; Part Status: Active; Price: 0.24; Series: Automotive, AEC-Q101, PAR®; Supplier 1: DigiKey; Supplier Part Number 1: TPSMA6.8AHE3_B/HGICT-ND; Supplier Device Package: DO-214AC (SMA); Voltage - Clamping (Max) @ Ipp: 10.5V; Voltage - Reverse Standoff (Typ): 5.8V
footprint DO214AC SMA
pins: 1, 2

## TPSMA20AHE3_B/H
designator D?
TVS DIODE 17.1V 27.7V DO214AC; Manufacturer: Vishay Semiconductor Diodes Division; Current - Peak Pulse (10/1000µs): 14.4A; Power Line Protection: No; Power - Peak Pulse: 400W; Type: Zener; Unidirectional Channels: 1; Voltage - Breakdown (Min): 19V; Part Number: TPSMA20AHE3_B/H; Applications: Automotive; ComponentLink1Description: Datasheet; ComponentLink1URL: http://www.vishay.com/docs/88405/tpsma.pdf; ComponentLink2Description: DigiKey Link; ComponentLink2URL: http://digikey.com/product-detail/en/vishay-semiconductor-diodes-division/TPSMA20AHE3_B-H/TPSMA20AHE3_B-HGICT-ND/9601295; LastUpdated: 9/2/2020 1:20:14 AM; Lifecycle Status: Active; Minimum Order: 1; Mounting Type: Surface Mount; Operating Temperature: -65°C ~ 185°C (TJ); Package / Case: DO-214AC, SMA; Packaging: TapeAndReel; PartId: 5701; Part Status: Active; Price: 0.14; Series: Automotive, AEC-Q101, PAR®; Supplier 1: DigiKey; Supplier Part Number 1: TPSMA20AHE3_B/HGICT-ND; Supplier Device Package: DO-214AC (SMA); Voltage - Clamping (Max) @ Ipp: 27.7V; Voltage - Reverse Standoff (Typ): 17.1V
footprint DO214AC SMA
pins: 1, 2

## TPSMA24AHE3_B/H
designator D?
TVS DIODE 20.5V 33.2V DO214AC; Manufacturer: Vishay Semiconductor Diodes Division; Current - Peak Pulse (10/1000µs): 12A; Power Line Protection: No; Power - Peak Pulse: 400W; Type: Zener; Unidirectional Channels: 1; Voltage - Breakdown (Min): 22.8V; Part Number: TPSMA24AHE3_B/H; Applications: Automotive; ComponentLink1Description: Datasheet; ComponentLink1URL: http://www.vishay.com/docs/88405/tpsma.pdf; ComponentLink2Description: DigiKey Link; ComponentLink2URL: http://digikey.com/product-detail/en/vishay-semiconductor-diodes-division/TPSMA24AHE3_B-H/TPSMA24AHE3_B-HGICT-ND/9601296; LastUpdated: 9/2/2020 1:20:14 AM; Lifecycle Status: Active; Minimum Order: 1; Mounting Type: Surface Mount; Operating Temperature: -65°C ~ 185°C (TJ); Package / Case: DO-214AC, SMA; Packaging: TapeAndReel; PartId: 5699; Part Status: Active; Price: 0.14; Series: Automotive, AEC-Q101, PAR®; Supplier 1: DigiKey; Supplier Part Number 1: TPSMA24AHE3_B/HGICT-ND; Supplier Device Package: DO-214AC (SMA); Voltage - Clamping (Max) @ Ipp: 33.2V; Voltage - Reverse Standoff (Typ): 20.5V
footprint DO214AC SMA
pins: 1, 2

## TPSMA27AHE3_B/H
designator D?
TVS DIODE 23.1V 37.5V DO214AC; Manufacturer: Vishay Semiconductor Diodes Division; Current - Peak Pulse (10/1000µs): 10.7A; Power Line Protection: No; Power - Peak Pulse: 400W; Type: Zener; Unidirectional Channels: 1; Voltage - Breakdown (Min): 25.7V; Part Number: TPSMA27AHE3_B/H; Applications: Automotive; ComponentLink1Description: Datasheet; ComponentLink1URL: http://www.vishay.com/docs/88405/tpsma.pdf; ComponentLink2Description: DigiKey Link; ComponentLink2URL: http://digikey.com/product-detail/en/vishay-semiconductor-diodes-division/TPSMA27AHE3_B-H/TPSMA27AHE3_B-HGICT-ND/9601297; LastUpdated: 9/2/2020 1:20:17 AM; Lifecycle Status: Active; Minimum Order: 1; Mounting Type: Surface Mount; Operating Temperature: -65°C ~ 185°C (TJ); Package / Case: DO-214AC, SMA; Packaging: TapeAndReel; PartId: 6094; Part Status: Active; Price: 0.14; Series: Automotive, AEC-Q101, PAR®; Supplier 1: DigiKey; Supplier Part Number 1: TPSMA27AHE3_B/HGICT-ND; Supplier Device Package: DO-214AC (SMA); Voltage - Clamping (Max) @ Ipp: 37.5V; Voltage - Reverse Standoff (Typ): 23.1V
footprint DO214AC SMA
pins: 1, 2

## TPSMA36AHE3_B/H
designator D?
TVS DIODE 30.8V 49.9V DO214AC; Manufacturer: Vishay Semiconductor Diodes Division; Current - Peak Pulse (10/1000µs): 8A; Power Line Protection: No; Power - Peak Pulse: 400W; Type: Zener; Unidirectional Channels: 1; Voltage - Breakdown (Min): 34.2V; Part Number: TPSMA36AHE3_B/H; Applications: Automotive; ComponentLink1Description: Datasheet; ComponentLink1URL: http://www.vishay.com/docs/88405/tpsma.pdf; ComponentLink2Description: DigiKey Link; ComponentLink2URL: http://digikey.com/product-detail/en/vishay-semiconductor-diodes-division/TPSMA36AHE3_B-H/TPSMA36AHE3_B-HGICT-ND/9601298; LastUpdated: 9/2/2020 1:20:14 AM; Lifecycle Status: Active; Minimum Order: 1; Mounting Type: Surface Mount; Operating Temperature: -65°C ~ 185°C (TJ); Package / Case: DO-214AC, SMA; Packaging: TapeAndReel; PartId: 5700; Part Status: Active; Price: 0.14; Series: Automotive, AEC-Q101, PAR®; Supplier 1: DigiKey; Supplier Part Number 1: TPSMA36AHE3_B/HGICT-ND; Supplier Device Package: DO-214AC (SMA); Voltage - Clamping (Max) @ Ipp: 49.9V; Voltage - Reverse Standoff (Typ): 30.8V
footprint DO214AC SMA
pins: 1, 2

## TPSMB6.8AHE3_A/H
designator D?
TVS DIODE 5.8V 10.5V DO214AA; Manufacturer: Vishay Semiconductor Diodes Division; Current - Peak Pulse (10/1000µs): 57.1A; Power Line Protection: No; Power - Peak Pulse: 600W; Type: Zener; Unidirectional Channels: 1; Voltage - Breakdown (Min): 6.45V; Part Number: TPSMB6.8AHE3_A/H; Applications: Automotive; ComponentLink1Description: Datasheet; ComponentLink1URL: http://www.vishay.com/docs/88406/tpsmb.pdf; ComponentLink2Description: DigiKey Link; ComponentLink2URL: http://digikey.com/product-detail/en/vishay-semiconductor-diodes-division/TPSMB6.8AHE3_A-H/TPSMB6.8AHE3_A-HGICT-ND/9601303; LastUpdated: 9/2/2020 1:19:46 AM; Lifecycle Status: Active; Minimum Order: 1; Mounting Type: Surface Mount; Operating Temperature: -65°C ~ 185°C (TJ); Package / Case: DO-214AA, SMB; Packaging: TapeAndReel; PartId: 10839; Part Status: Active; Price: 0.28; Series: Automotive, AEC-Q101, PAR®; Supplier 1: DigiKey; Supplier Part Number 1: TPSMB6.8AHE3_A/HGICT-ND; Supplier Device Package: DO-214AA (SMB); Voltage - Clamping (Max) @ Ipp: 10.5V; Voltage - Reverse Standoff (Typ): 5.8V
footprint DO214AA SMB
pins: 1, 2

## TPSMB12A-VR
designator D?
TVS SURF MT DO214AA AEQ101 TR; Manufacturer: Littelfuse Inc.; Current - Peak Pulse (10/1000µs): 30.2A; Power Line Protection: No; Power - Peak Pulse: 600W; Type: Zener; Unidirectional Channels: 1; Voltage - Breakdown (Min): 13.3V; Voltage - Clamping (Max) @ Ipp: 19.9V; Voltage - Reverse Standoff (Typ): 12V; Part Number: TPSMB12A-VR; Applications: Automotive; ComponentLink1Description: Datasheet; ComponentLink1URL: https://www.littelfuse.com/~/media/electronics/datasheets/tvs_diodes/littelfuse_tvs_diode_tpsmb_vr_datasheet.pdf.pdf; ComponentLink2Description: DigiKey Link; ComponentLink2URL: http://digikey.com/product-detail/en/littelfuse-inc/TPSMB12A-VR/TPSMB12A-VRCT-ND/9991775; LastUpdated: 9/2/2020 1:19:46 AM; Lifecycle Status: Active; Minimum Order: 1; Mounting Type: Surface Mount; Operating Temperature: -65°C ~ 175°C (TJ); Package / Case: DO-214AA, SMB; Packaging: TapeAndReel; PartId: 10844; Part Status: Active; Price: 0.18; Series: Automotive, AEC-Q101, TPSMB-VR; Supplier 1: DigiKey; Supplier Part Number 1: TPSMB12A-VRCT-ND; Supplier Device Package: DO-214AA (SMBJ)
footprint DO214AA SMB
pins: 1, 2